# Altium footprint library con-phoenix-508.PCBLIB: 90 footprints (part 3 of 6)
Each footprint in its own frame and in the unit in brackets; x right, y up, seen from the top. Pads: shape width x height; smd on the part's side, far side on the other; paste and mask are expansions set on the pad; w line width, h text height; cw(c..) or ccw(c..) is an arc to the next point about the centre after c.
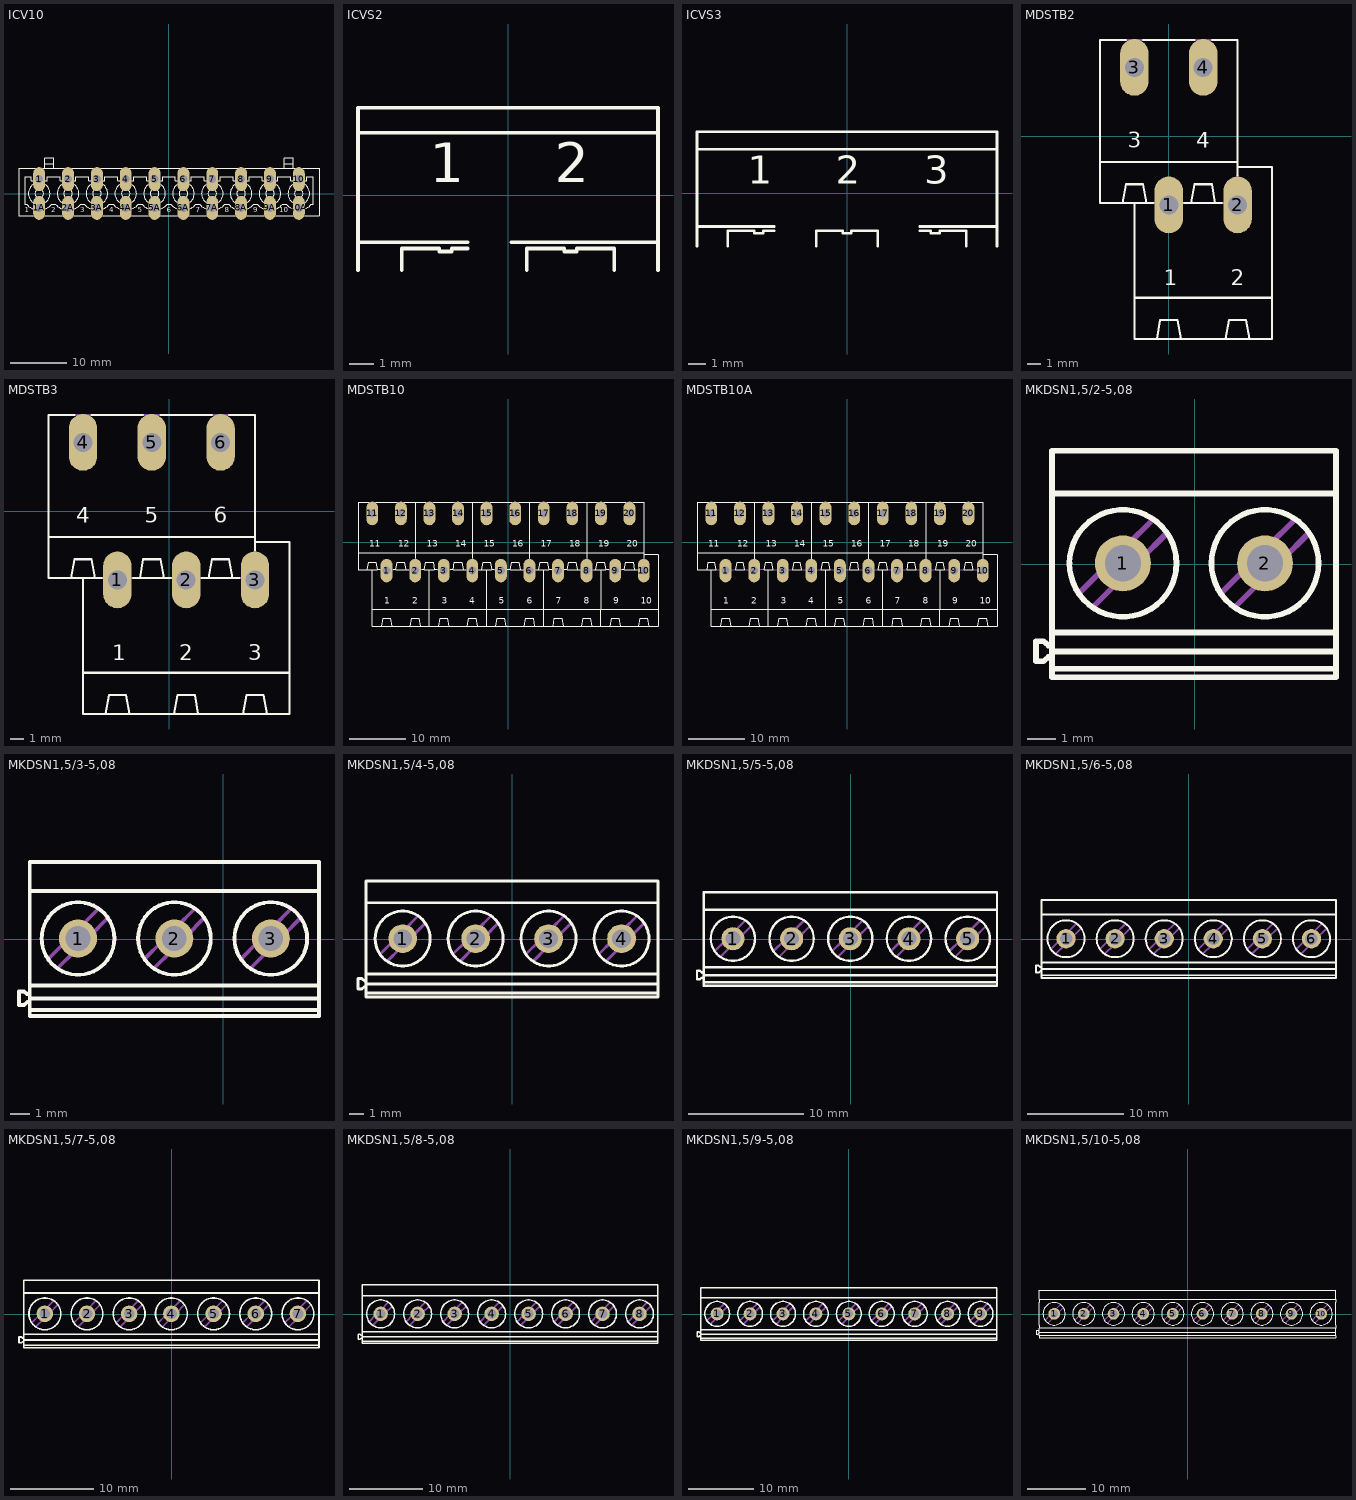
[diagram p2: the footprints below, top view; thin cyan lines are the x and y axes]

## ICV10 [mil]
pads (20):
  oval 82.5x165 hole 55: 1(-900,100) 1A(-900,-100) 2(-700,100) 2A(-700,-100) 3(-500,100) 3A(-500,-100) 4(-300,100) 4A(-300,-100) 5(-100,100) 5A(-100,-100) 6(100,100) 6A(100,-100) 7(300,100) 7A(300,-100) 8(500,100) 8A(500,-100) 9(700,100) 9A(700,-100) 10(900,100) 10A(900,-100)
Top Overlay:
  drawing of 164 lines, arcs and shapes, not listed
  text "1" at -1000,-145 h62
  text "2" at -815,-145 h62
  text "3" at -615,-145 h62
  text "4" at -415,-145 h62
  text "5" at -215,-145 h62
  text "6" at -15,-145 h62
  text "7" at 185,-145 h62
  text "8" at 385,-145 h62
  text "9" at 585,-145 h62
  text "10" at 765,-145 h62
Mechanical 16:
  lines w6: -943,-155 -857,-155 ; -943,-106.66 ccw(c-900,0) -857,-106.66 ; -943,-61.45 ccw(c-900,0) -857,-61.45 ; -943,61.45 cw(c-900,0) -857,61.45 ; -943,90 -857,90 ; -926,175 -874,175 ; -921.71,-20.71 ccw(c-900,0) -878.29,-20.71 ; -921.71,20.71 cw(c-900,0) -878.29,20.71 ; -743,-155 -657,-155 ; -743,-106.66 ccw(c-700,0) -657,-106.66 ; -743,-61.45 ccw(c-700,0) -657,-61.45 ; -743,61.45 cw(c-700,0) -657,61.45 ; -743,90 -657,90 ; -726,175 -674,175 ; -721.71,-20.71 ccw(c-700,0) -678.29,-20.71 ; -721.71,20.71 cw(c-700,0) -678.29,20.71 ; -543,-155 -457,-155 ; -543,-106.66 ccw(c-500,0) -457,-106.66 ; -543,-61.45 ccw(c-500,0) -457,-61.45 ; -543,61.45 cw(c-500,0) -457,61.45 ; -543,90 -457,90 ; -526,175 -474,175 ; -521.71,-20.71 ccw(c-500,0) -478.29,-20.71 ; -521.71,20.71 cw(c-500,0) -478.29,20.71 ; -343,-155 -257,-155 ; -343,-106.66 ccw(c-300,0) -257,-106.66 ; -343,-61.45 ccw(c-300,0) -257,-61.45 ; -343,61.45 cw(c-300,0) -257,61.45 ; -343,90 -257,90 ; -326,175 -274,175 ; -321.71,-20.71 ccw(c-300,0) -278.29,-20.71 ; -321.71,20.71 cw(c-300,0) -278.29,20.71 ; -143,-155 -57,-155 ; -143,-106.66 ccw(c-100,0) -57,-106.66 ; -143,-61.45 ccw(c-100,0) -57,-61.45 ; -143,61.45 cw(c-100,0) -57,61.45 ; -143,90 -57,90 ; -126,175 -74,175 ; -121.71,-20.71 ccw(c-100,0) -78.29,-20.71 ; -121.71,20.71 cw(c-100,0) -78.29,20.71 ; 57,-155 143,-155 ; 57,-106.66 ccw(c100,0) 143,-106.66 ; 57,-61.45 ccw(c100,0) 143,-61.45 ; 57,61.45 cw(c100,0) 143,61.45 ; 57,90 143,90 ; 74,175 126,175 ; 78.29,-20.71 ccw(c100,0) 121.71,-20.71 ; 78.29,20.71 cw(c100,0) 121.71,20.71 ; 257,-155 343,-155 ; 257,-106.66 ccw(c300,0) 343,-106.66 ; 257,-61.45 ccw(c300,0) 343,-61.45 ; 257,61.45 cw(c300,0) 343,61.45 ; 257,90 343,90 ; 274,175 326,175 ; 278.29,-20.71 ccw(c300,0) 321.71,-20.71 ; 278.29,20.71 cw(c300,0) 321.71,20.71 ; 457,-155 543,-155 ; 457,-106.66 ccw(c500,0) 543,-106.66 ; 457,-61.45 ccw(c500,0) 543,-61.45 ; 457,61.45 cw(c500,0) 543,61.45 ; 457,90 543,90 ; 474,175 526,175 ; 478.29,-20.71 ccw(c500,0) 521.71,-20.71 ; 478.29,20.71 cw(c500,0) 521.71,20.71 ; 657,-155 743,-155 ; 657,-106.66 ccw(c700,0) 743,-106.66 ; 657,-61.45 ccw(c700,0) 743,-61.45 ; 657,61.45 cw(c700,0) 743,61.45 ; 657,90 743,90 ; 674,175 726,175 ; 678.29,-20.71 ccw(c700,0) 721.71,-20.71 ; 678.29,20.71 cw(c700,0) 721.71,20.71 ; 857,-155 943,-155 ; 857,-106.66 ccw(c900,0) 943,-106.66 ; 857,-61.45 ccw(c900,0) 943,-61.45 ; 857,61.45 cw(c900,0) 943,61.45 ; 857,90 943,90 ; 874,175 926,175 ; 878.29,-20.71 ccw(c900,0) 921.71,-20.71 ; 878.29,20.71 cw(c900,0) 921.71,20.71

## ICVS2 [mil]
Top Overlay:
  lines w6: -240,-120 -240,-75 ; -170,-120 -170,-85 -110,-85 -110,-90 -90,-90 -90,-85 -65,-85 ; -65,-75 -240,-75 ; 5,-75 240,-75 ; 30,-120 30,-85 90,-85 90,-90 110,-90 110,-85 170,-85 170,-120 ; 240,-120 240,-75 ; -240,-75 -240,100 ; -240,100 -240,140 240,140 240,100 ; -240,100 240,100 ; 240,-75 240,100
  text "1" at -125,0 h108.5
  text "2" at 75,0 h108.5

## ICVS3 [mil]
Top Overlay:
  lines w6: -340,-120 -340,-75 ; -270,-120 -270,-85 -210,-85 -210,-90 -190,-90 -190,-85 -165,-85 ; -165,-75 -340,-75 ; -70,-120 -70,-85 -10,-85 -10,-90 10,-90 10,-85 70,-85 70,-120 ; 165,-85 190,-85 190,-90 210,-90 210,-85 270,-85 270,-120 ; 165,-75 340,-75 ; 340,-120 340,-75 ; -340,-75 -340,100 ; -340,100 -340,140 340,140 340,100 ; -340,100 340,100 ; 340,-75 340,100
  text "1" at -225,0 h108.5
  text "2" at -25,0 h108.5
  text "3" at 175,0 h108.5

## MDSTB2 [mil]
pads (4):
  oval 82.5x165 hole 55: 1(0,-200) 2(200,-200) 3(-100,200) 4(100,200)
Top Overlay:
  lines w6: -125,280 -200,280 -200,-75 ; -75,280 75,280 ; -45,-195 -65,-195 ; 45,-195 65,-195 ; 125,280 200,280 200,-75 ; 155,-195 135,-195 ; 200,-115 200,-90 ; -200,-75 -200,-195 -135,-195 ; -200,-75 200,-75 ; -135,-195 -100,-195 ; -135,-195 -125,-140 -75,-140 -65,-195 ; -100,-470 -100,-590 -35,-590 ; -100,-470 -100,-195 ; -100,-470 300,-470 ; -100,-195 -65,-195 ; -35,-590 35,-590 ; -35,-590 -25,-535 25,-535 35,-590 ; 35,-590 165,-590 ; 65,-195 135,-195 ; 65,-195 75,-140 125,-140 135,-195 ; 165,-590 235,-590 ; 165,-590 175,-535 225,-535 235,-590 ; 200,-90 200,-75 ; 200,-90 300,-90 300,-470 ; 235,-590 300,-590 300,-470
  text "1" at -15,-450 h77.5
  text "2" at 180,-450 h77.5
  text "3" at -120,-50 h77.5
  text "4" at 80,-50 h77.5
Mechanical 16:
  lines w6: -125,280 -75,280 ; -45,-195 45,-195 ; 75,280 125,280 ; 155,-195 200,-195 200,-115

## MDSTB3 [mil]
pads (6):
  oval 82.5x165 hole 55: 1(-150,-200) 2(50,-200) 3(250,-200) 4(-250,200) 5(-50,200) 6(150,200)
Top Overlay:
  lines w6: -275,280 -350,280 -350,-75 ; -225,280 -75,280 ; -195,-195 -215,-195 ; -105,-195 -85,-195 ; -25,280 125,280 ; 5,-195 -15,-195 ; 95,-195 115,-195 ; 175,280 250,280 250,-75 ; 205,-195 185,-195 ; 250,-115 250,-90 ; -350,-75 -350,-195 -285,-195 ; -350,-75 250,-75 ; -285,-195 -250,-195 ; -285,-195 -275,-140 -225,-140 -215,-195 ; -250,-470 -250,-590 -185,-590 ; -250,-470 -250,-195 ; -250,-470 350,-470 ; -250,-195 -215,-195 ; -185,-590 -115,-590 ; -185,-590 -175,-535 -125,-535 -115,-590 ; -115,-590 15,-590 ; -85,-195 -15,-195 ; -85,-195 -75,-140 -25,-140 -15,-195 ; 15,-590 85,-590 ; 15,-590 25,-535 75,-535 85,-590 ; 85,-590 215,-590 ; 115,-195 185,-195 ; 115,-195 125,-140 175,-140 185,-195 ; 215,-590 285,-590 ; 215,-590 225,-535 275,-535 285,-590 ; 250,-90 250,-75 ; 250,-90 350,-90 350,-470 ; 285,-590 350,-590 350,-470
  text "1" at -165,-450 h77.5
  text "2" at 30,-450 h77.5
  text "3" at 230,-450 h77.5
  text "5" at -70,-50 h77.5
  text "4" at -270,-50 h77.5
  text "6" at 130,-50 h77.5
Mechanical 16:
  lines w6: -275,280 -225,280 ; -195,-195 -105,-195 ; -75,280 -25,280 ; 5,-195 95,-195 ; 125,280 175,280 ; 205,-195 250,-195 250,-115

## MDSTB10 [mil]
pads (20):
  oval 82.5x165 hole 55: 1(-850,-200) 2(-650,-200) 3(-450,-200) 4(-250,-200) 5(-50,-200) 6(150,-200) 7(350,-200) 8(550,-200) 9(750,-200) 10(950,-200) 11(-950,200) 12(-750,200) 13(-550,200) 14(-350,200) 15(-150,200) 16(50,200) 17(250,200) 18(450,200) 19(650,200) 20(850,200)
Top Overlay:
  drawing of 171 lines, arcs and shapes, not listed
  text "1" at -865,-450 h77.5
  text "2" at -670,-450 h77.5
  text "3" at -465,-450 h77.5
  text "4" at -270,-450 h77.5
  text "5" at -65,-450 h77.5
  text "6" at 130,-450 h77.5
  text "7" at 335,-450 h77.5
  text "8" at 530,-450 h77.5
  text "9" at 735,-450 h77.5
  text "10" at 930,-450 h77.5
  text "11" at -970,-50 h77.5
  text "12" at -770,-50 h77.5
  text "13" at -570,-50 h77.5
  text "14" at -370,-50 h77.5
  text "15" at -170,-50 h77.5
  text "16" at 30,-50 h77.5
  text "17" at 230,-50 h77.5
  text "18" at 430,-50 h77.5
  text "19" at 630,-50 h77.5
  text "20" at 830,-50 h77.5
Mechanical 16:
  lines w6: -975,280 -925,280 ; -895,-195 -805,-195 ; -775,280 -725,280 ; -695,-195 -650,-195 ; -650,-115 -650,-195 ; -605,-195 -650,-195 ; -575,280 -525,280 ; -495,-195 -405,-195 ; -375,280 -325,280 ; -295,-195 -250,-195 ; -250,-115 -250,-195 ; -205,-195 -250,-195 ; -175,280 -125,280 ; -95,-195 -5,-195 ; 25,280 75,280 ; 105,-195 150,-195 ; 150,-115 150,-195 ; 195,-195 150,-195 ; 225,280 275,280 ; 305,-195 395,-195 ; 425,280 475,280 ; 505,-195 550,-195 ; 550,-115 550,-195 ; 600,-195 550,-195 ; 625,280 675,280 ; 705,-195 795,-195 ; 825,280 875,280 ; 905,-195 950,-195 950,-115

## MDSTB10A [mil]
pads (20):
  oval 82.5x165 hole 55: 1(-850,-200) 2(-650,-200) 3(-450,-200) 4(-250,-200) 5(-50,-200) 6(150,-200) 7(350,-200) 8(550,-200) 9(750,-200) 10(950,-200) 11(-950,200) 12(-750,200) 13(-550,200) 14(-350,200) 15(-150,200) 16(50,200) 17(250,200) 18(450,200) 19(650,200) 20(850,200)
Top Overlay:
  lines w6: -650,-125 -650,-75 ; -250,-125 -250,-75 ; 150,-125 150,-75 ; 550,-125 550,-75 ; 950,-125 950,-90 ; -1050,-75 -1050,280 -650,280 ; -1050,-75 -1050,-195 -980,-195 ; -1050,-75 -650,-75 ; -980,-195 -950,-195 ; -980,-195 -970,-140 -930,-140 -920,-195 -950,-195 ; -950,-470 -950,-590 -885,-590 ; -950,-470 -950,-195 ; -950,-470 -550,-470 ; -885,-590 -815,-590 ; -885,-590 -875,-535 -825,-535 -815,-590 ; -815,-590 -685,-590 ; -685,-590 -615,-590 ; -685,-590 -675,-535 -625,-535 -615,-590 ; -650,-75 -650,280 ; -650,-75 -250,-75 ; -650,280 -250,280 ; -615,-590 -550,-590 ; -550,-590 -485,-590 ; -550,-590 -550,-470 ; -550,-470 -550,-195 ; -550,-470 -150,-470 ; -550,-195 -580,-195 -570,-140 -530,-140 -520,-195 -550,-195 ; -485,-590 -415,-590 ; -485,-590 -475,-535 -425,-535 -415,-590 ; -415,-590 -285,-590 ; -285,-590 -215,-590 ; -285,-590 -275,-535 -225,-535 -215,-590 ; -250,-75 -250,280 ; -250,-75 150,-75 ; -250,280 150,280 ; -215,-590 -150,-590 ; -150,-590 -85,-590 ; -150,-590 -150,-470 ; -150,-470 -150,-195 ; -150,-470 250,-470 ; -150,-195 -180,-195 -170,-140 -130,-140 -120,-195 -150,-195 ; -85,-590 -15,-590 ; -85,-590 -75,-535 -25,-535 -15,-590 ; -15,-590 115,-590 ; 115,-590 185,-590 ; 115,-590 125,-535 175,-535 185,-590 ; 150,-75 150,280 ; 150,-75 550,-75 ; 150,280 550,280 ; 185,-590 250,-590 ; 250,-590 315,-590 ; 250,-590 250,-470 ; 250,-470 250,-195 ; 250,-470 650,-470 ; 250,-195 220,-195 230,-140 270,-140 280,-195 250,-195 ; 315,-590 385,-590 ; 315,-590 325,-535 375,-535 385,-590 ; 385,-590 515,-590 ; 515,-590 585,-590 ; 515,-590 525,-535 575,-535 585,-590 ; 550,-75 550,280 ; 550,-75 950,-75 ; 550,280 950,280 950,-75 ; 585,-590 650,-590 ; 650,-590 715,-590 ; 650,-590 650,-470 ; 650,-470 650,-195 ; 650,-470 1050,-470 ; 650,-195 620,-195 630,-140 670,-140 680,-195 650,-195 ; 715,-590 785,-590 ; 715,-590 725,-535 775,-535 785,-590 ; 785,-590 915,-590 ; 915,-590 985,-590 ; 915,-590 925,-535 975,-535 985,-590 ; 950,-90 950,-75 ; 950,-90 1050,-90 1050,-470 ; 985,-590 1050,-590 1050,-470 ; -780,-195 -720,-195 -730,-140 -770,-140 -780,-195 ; -380,-195 -320,-195 -330,-140 -370,-140 -380,-195 ; 20,-195 80,-195 70,-140 30,-140 20,-195 ; 420,-195 480,-195 470,-140 430,-140 420,-195 ; 820,-195 880,-195 870,-140 830,-140 820,-195
  text "1" at -865,-450 h77.5
  text "2" at -670,-450 h77.5
  text "3" at -465,-450 h77.5
  text "4" at -270,-450 h77.5
  text "5" at -65,-450 h77.5
  text "6" at 130,-450 h77.5
  text "7" at 335,-450 h77.5
  text "8" at 530,-450 h77.5
  text "9" at 735,-450 h77.5
  text "10" at 930,-450 h77.5
  text "11" at -970,-50 h77.5
  text "12" at -770,-50 h77.5
  text "13" at -570,-50 h77.5
  text "14" at -370,-50 h77.5
  text "15" at -170,-50 h77.5
  text "16" at 30,-50 h77.5
  text "17" at 230,-50 h77.5
  text "18" at 430,-50 h77.5
  text "19" at 630,-50 h77.5
  text "20" at 830,-50 h77.5
Mechanical 16:
  lines w6: -920,-195 -780,-195 ; -720,-195 -650,-195 ; -650,-125 -650,-195 ; -580,-195 -650,-195 ; -520,-195 -380,-195 ; -320,-195 -250,-195 ; -250,-125 -250,-195 ; -180,-195 -250,-195 ; -120,-195 20,-195 ; 80,-195 150,-195 ; 150,-125 150,-195 ; 220,-195 150,-195 ; 280,-195 420,-195 ; 480,-195 550,-195 ; 550,-125 550,-195 ; 620,-195 550,-195 ; 680,-195 820,-195 ; 880,-195 950,-195 950,-125

## MKDSN1,5/2-5,08 [mm]
pads (2):
  round 2 hole 1.3: 1(-2.561,0.025) 2(2.519,0.025)
Top Overlay:
  circle w0.203: c-2.561,0.025 r1.915
  circle w0.203: c2.519,0.025 r1.915
  lines w0.203: -5.101,-3.75 -5.101,-3.327 ; -5.101,-3.75 5.059,-3.75 ; -5.101,-3.75 -5.101,-4.05 5.059,-4.05 5.059,-3.75 ; -5.101,-3.327 -5.23,-3.327 -5.408,-3.477 -5.671,-3.477 -5.671,-2.763 -5.408,-2.763 -5.23,-2.913 -5.101,-2.913 ; -5.101,-3.327 -5.101,-3.128 ; -5.101,-3.128 -5.101,-2.913 ; -5.101,-3.128 5.059,-3.128 ; -5.101,-2.913 -5.101,-2.448 ; -5.101,-2.448 -5.101,-1.956 -5.101,2.041 -5.101,2.524 ; -5.101,-2.448 5.059,-2.448 ; -5.101,2.524 5.059,2.524 ; -5.101,2.524 -5.101,4.05 5.059,4.05 5.059,2.524 ; 5.059,-3.75 5.059,-3.128 ; 5.059,-3.128 5.059,-2.448 ; 5.059,-2.448 5.059,-1.956 5.059,2.041 5.059,2.524
Mechanical 16:
  lines w0.203: -4.129,-1.048 -3.2,-0.119 ; -3.634,-1.543 -2.721,-0.63 ; -1.488,1.593 -2.442,0.639 ; -0.993,1.098 -1.931,0.16 ; 0.951,-1.048 1.88,-0.119 ; 1.446,-1.543 2.359,-0.63 ; 3.592,1.593 2.638,0.639 ; 4.087,1.098 3.149,0.16 ; -3.2,-0.119 -2.561,0.52 -2.442,0.639 ; -3.2,-0.119 ccw(c-2.561,0) -2.721,-0.63 ; -2.721,-0.63 -2.561,-0.47 -1.931,0.16 ; -2.442,0.639 cw(c-2.561,0) -1.931,0.16 ; 1.88,-0.119 2.519,0.52 2.638,0.639 ; 1.88,-0.119 ccw(c2.519,0) 2.359,-0.63 ; 2.359,-0.63 2.519,-0.47 3.149,0.16 ; 2.638,0.639 cw(c2.519,0) 3.149,0.16

## MKDSN1,5/3-5,08 [mm]
pads (3):
  round 2 hole 1.3: 1(-7.641,0.025) 2(-2.561,0.025) 3(2.519,0.025)
Top Overlay:
  circle w0.203: c-7.641,0.025 r1.915
  circle w0.203: c-2.561,0.025 r1.915
  circle w0.203: c2.519,0.025 r1.915
  lines w0.203: -10.181,-3.75 -10.181,-3.327 ; -10.181,-3.75 5.059,-3.75 ; -10.181,-3.75 -10.181,-4.05 5.059,-4.05 5.059,-3.75 ; -10.181,-3.327 -10.31,-3.327 -10.488,-3.477 -10.751,-3.477 -10.751,-2.763 -10.488,-2.763 -10.31,-2.913 -10.181,-2.913 ; -10.181,-3.327 -10.181,-3.128 ; -10.181,-3.128 -10.181,-2.913 ; -10.181,-3.128 5.059,-3.128 ; -10.181,-2.913 -10.181,-2.448 ; -10.181,-2.448 -10.181,-1.956 -10.181,2.041 -10.181,2.524 ; -10.181,-2.448 5.059,-2.448 ; -10.181,2.524 5.059,2.524 ; -10.181,2.524 -10.181,4.05 5.059,4.05 5.059,2.524 ; 5.059,-3.75 5.059,-3.128 ; 5.059,-3.128 5.059,-2.448 ; 5.059,-2.448 5.059,-1.956 5.059,2.041 5.059,2.524
Mechanical 16:
  lines w0.203: -9.209,-1.048 -8.28,-0.119 ; -8.714,-1.543 -7.801,-0.63 ; -6.568,1.593 -7.522,0.639 ; -6.073,1.098 -7.011,0.16 ; -4.129,-1.048 -3.2,-0.119 ; -3.634,-1.543 -2.721,-0.63 ; -1.488,1.593 -2.442,0.639 ; -0.993,1.098 -1.931,0.16 ; 0.951,-1.048 1.88,-0.119 ; 1.446,-1.543 2.359,-0.63 ; 3.592,1.593 2.638,0.639 ; 4.087,1.098 3.149,0.16 ; -8.28,-0.119 -7.641,0.52 -7.522,0.639 ; -8.28,-0.119 ccw(c-7.641,0) -7.801,-0.63 ; -7.801,-0.63 -7.641,-0.47 -7.011,0.16 ; -7.522,0.639 cw(c-7.641,0) -7.011,0.16 ; -3.2,-0.119 -2.561,0.52 -2.442,0.639 ; -3.2,-0.119 ccw(c-2.561,0) -2.721,-0.63 ; -2.721,-0.63 -2.561,-0.47 -1.931,0.16 ; -2.442,0.639 cw(c-2.561,0) -1.931,0.16 ; 1.88,-0.119 2.519,0.52 2.638,0.639 ; 1.88,-0.119 ccw(c2.519,0) 2.359,-0.63 ; 2.359,-0.63 2.519,-0.47 3.149,0.16 ; 2.638,0.639 cw(c2.519,0) 3.149,0.16

## MKDSN1,5/4-5,08 [mm]
pads (4):
  round 2 hole 1.3: 1(-7.641,0.025) 2(-2.561,0.025) 3(2.519,0.025) 4(7.599,0.025)
Top Overlay:
  circle w0.203: c-7.641,0.025 r1.915
  circle w0.203: c-2.561,0.025 r1.915
  circle w0.203: c2.519,0.025 r1.915
  circle w0.203: c7.599,0.025 r1.915
  lines w0.203: -10.181,-3.75 -10.181,-3.327 ; -10.181,-3.75 10.139,-3.75 ; -10.181,-3.75 -10.181,-4.05 10.139,-4.05 10.139,-3.75 ; -10.181,-3.327 -10.31,-3.327 -10.488,-3.477 -10.751,-3.477 -10.751,-2.763 -10.488,-2.763 -10.31,-2.913 -10.181,-2.913 ; -10.181,-3.327 -10.181,-3.128 ; -10.181,-3.128 -10.181,-2.913 ; -10.181,-3.128 10.139,-3.128 ; -10.181,-2.913 -10.181,-2.448 ; -10.181,-2.448 -10.181,-1.956 -10.181,2.041 -10.181,2.524 ; -10.181,-2.448 10.139,-2.448 ; -10.181,2.524 10.139,2.524 ; -10.181,2.524 -10.181,4.05 10.139,4.05 10.139,2.524 ; 10.139,-3.75 10.139,-3.128 ; 10.139,-3.128 10.139,-2.448 ; 10.139,-2.448 10.139,-1.956 10.139,2.041 10.139,2.524
Mechanical 16:
  lines w0.203: -9.209,-1.048 -8.28,-0.119 ; -8.714,-1.543 -7.801,-0.63 ; -6.568,1.593 -7.522,0.639 ; -6.073,1.098 -7.011,0.16 ; -4.129,-1.048 -3.2,-0.119 ; -3.634,-1.543 -2.721,-0.63 ; -1.488,1.593 -2.442,0.639 ; -0.993,1.098 -1.931,0.16 ; 0.951,-1.048 1.88,-0.119 ; 1.446,-1.543 2.359,-0.63 ; 3.592,1.593 2.638,0.639 ; 4.087,1.098 3.149,0.16 ; 6.031,-1.048 6.96,-0.119 ; 6.526,-1.543 7.439,-0.63 ; 8.672,1.593 7.718,0.639 ; 9.167,1.098 8.229,0.16 ; -8.28,-0.119 -7.641,0.52 -7.522,0.639 ; -8.28,-0.119 ccw(c-7.641,0) -7.801,-0.63 ; -7.801,-0.63 -7.641,-0.47 -7.011,0.16 ; -7.522,0.639 cw(c-7.641,0) -7.011,0.16 ; -3.2,-0.119 -2.561,0.52 -2.442,0.639 ; -3.2,-0.119 ccw(c-2.561,0) -2.721,-0.63 ; -2.721,-0.63 -2.561,-0.47 -1.931,0.16 ; -2.442,0.639 cw(c-2.561,0) -1.931,0.16 ; 1.88,-0.119 2.519,0.52 2.638,0.639 ; 1.88,-0.119 ccw(c2.519,0) 2.359,-0.63 ; 2.359,-0.63 2.519,-0.47 3.149,0.16 ; 2.638,0.639 cw(c2.519,0) 3.149,0.16 ; 6.96,-0.119 7.599,0.52 7.718,0.639 ; 6.96,-0.119 ccw(c7.599,0) 7.439,-0.63 ; 7.439,-0.63 7.599,-0.47 8.229,0.16 ; 7.718,0.639 cw(c7.599,0) 8.229,0.16

## MKDSN1,5/5-5,08 [mm]
pads (5):
  round 2 hole 1.3: 1(-10.181,0.025) 2(-5.101,0.025) 3(-0.021,0.025) 4(5.059,0.025) 5(10.139,0.025)
Top Overlay:
  circle w0.203: c-10.181,0.025 r1.915
  circle w0.203: c-5.101,0.025 r1.915
  circle w0.203: c-0.021,0.025 r1.915
  circle w0.203: c5.059,0.025 r1.915
  circle w0.203: c10.139,0.025 r1.915
  lines w0.203: -12.721,-3.75 -12.721,-3.327 ; -12.721,-3.75 12.679,-3.75 ; -12.721,-3.75 -12.721,-4.05 12.679,-4.05 12.679,-3.75 ; -12.721,-3.327 -12.85,-3.327 -13.028,-3.477 -13.291,-3.477 -13.291,-2.763 -13.028,-2.763 -12.85,-2.913 -12.721,-2.913 ; -12.721,-3.327 -12.721,-3.128 ; -12.721,-3.128 -12.721,-2.913 ; -12.721,-3.128 12.679,-3.128 ; -12.721,-2.913 -12.721,-2.448 ; -12.721,-2.448 -12.721,-1.956 -12.721,2.041 -12.721,2.524 ; -12.721,-2.448 12.679,-2.448 ; -12.721,2.524 12.679,2.524 ; -12.721,2.524 -12.721,4.05 12.679,4.05 12.679,2.524 ; 12.679,-3.75 12.679,-3.128 ; 12.679,-3.128 12.679,-2.448 ; 12.679,-2.448 12.679,-1.956 12.679,2.041 12.679,2.524
Mechanical 16:
  lines w0.203: -11.749,-1.048 -10.82,-0.119 ; -11.254,-1.543 -10.341,-0.63 ; -9.108,1.593 -10.062,0.639 ; -8.613,1.098 -9.551,0.16 ; -6.669,-1.048 -5.74,-0.119 ; -6.174,-1.543 -5.261,-0.63 ; -4.028,1.593 -4.982,0.639 ; -3.533,1.098 -4.471,0.16 ; -1.589,-1.048 -0.66,-0.119 ; -1.094,-1.543 -0.181,-0.63 ; 1.052,1.593 0.098,0.639 ; 1.547,1.098 0.609,0.16 ; 3.491,-1.048 4.42,-0.119 ; 3.986,-1.543 4.899,-0.63 ; 6.132,1.593 5.178,0.639 ; 6.627,1.098 5.689,0.16 ; 8.571,-1.048 9.5,-0.119 ; 9.066,-1.543 9.979,-0.63 ; 11.212,1.593 10.258,0.639 ; 11.707,1.098 10.769,0.16 ; -10.82,-0.119 -10.181,0.52 -10.062,0.639 ; -10.82,-0.119 ccw(c-10.181,0) -10.341,-0.63 ; -10.341,-0.63 -10.181,-0.47 -9.551,0.16 ; -10.062,0.639 cw(c-10.181,0) -9.551,0.16 ; -5.74,-0.119 -5.101,0.52 -4.982,0.639 ; -5.74,-0.119 ccw(c-5.101,0) -5.261,-0.63 ; -5.261,-0.63 -5.101,-0.47 -4.471,0.16 ; -4.982,0.639 cw(c-5.101,0) -4.471,0.16 ; -0.66,-0.119 -0.021,0.52 0.098,0.639 ; -0.66,-0.119 ccw(c-0.021,0) -0.181,-0.63 ; -0.181,-0.63 -0.021,-0.47 0.609,0.16 ; 0.098,0.639 cw(c-0.021,0) 0.609,0.16 ; 4.42,-0.119 5.059,0.52 5.178,0.639 ; 4.42,-0.119 ccw(c5.059,0) 4.899,-0.63 ; 4.899,-0.63 5.059,-0.47 5.689,0.16 ; 5.178,0.639 cw(c5.059,0) 5.689,0.16 ; 9.5,-0.119 10.139,0.52 10.258,0.639 ; 9.5,-0.119 ccw(c10.139,0) 9.979,-0.63 ; 9.979,-0.63 10.139,-0.47 10.769,0.16 ; 10.258,0.639 cw(c10.139,0) 10.769,0.16

## MKDSN1,5/6-5,08 [mm]
pads (6):
  round 2 hole 1.3: 1(-12.7,0.025) 2(-7.62,0.025) 3(-2.54,0.025) 4(2.54,0.025) 5(7.62,0.025) 6(12.7,0.025)
Top Overlay:
  circle w0.203: c-12.7,0.025 r1.915
  circle w0.203: c-7.62,0.025 r1.915
  circle w0.203: c-2.54,0.025 r1.915
  circle w0.203: c2.54,0.025 r1.915
  circle w0.203: c7.62,0.025 r1.915
  circle w0.203: c12.7,0.025 r1.915
  lines w0.203: -15.24,-3.75 -15.24,-3.327 ; -15.24,-3.75 15.24,-3.75 ; -15.24,-3.75 -15.24,-4.05 15.24,-4.05 15.24,-3.75 ; -15.24,-3.327 -15.369,-3.327 -15.547,-3.477 -15.81,-3.477 -15.81,-2.763 -15.547,-2.763 -15.369,-2.913 -15.24,-2.913 ; -15.24,-3.327 -15.24,-3.128 ; -15.24,-3.128 -15.24,-2.913 ; -15.24,-3.128 15.24,-3.128 ; -15.24,-2.913 -15.24,-2.448 ; -15.24,-2.448 -15.24,-1.956 -15.24,2.041 -15.24,2.524 ; -15.24,-2.448 15.24,-2.448 ; -15.24,2.524 15.24,2.524 ; -15.24,2.524 -15.24,4.05 15.24,4.05 15.24,2.524 ; 15.24,-3.75 15.24,-3.128 ; 15.24,-3.128 15.24,-2.448 ; 15.24,-2.448 15.24,-1.956 15.24,2.041 15.24,2.524
Mechanical 16:
  lines w0.203: -14.268,-1.048 -13.339,-0.119 ; -13.773,-1.543 -12.86,-0.63 ; -11.627,1.593 -12.581,0.639 ; -11.132,1.098 -12.07,0.16 ; -9.188,-1.048 -8.259,-0.119 ; -8.693,-1.543 -7.78,-0.63 ; -6.547,1.593 -7.501,0.639 ; -6.052,1.098 -6.99,0.16 ; -4.108,-1.048 -3.179,-0.119 ; -3.613,-1.543 -2.7,-0.63 ; -1.467,1.593 -2.421,0.639 ; -0.972,1.098 -1.91,0.16 ; 0.972,-1.048 1.901,-0.119 ; 1.467,-1.543 2.38,-0.63 ; 3.613,1.593 2.659,0.639 ; 4.108,1.098 3.17,0.16 ; 6.052,-1.048 6.981,-0.119 ; 6.547,-1.543 7.46,-0.63 ; 8.693,1.593 7.739,0.639 ; 9.188,1.098 8.25,0.16 ; 11.132,-1.048 12.061,-0.119 ; 11.627,-1.543 12.54,-0.63 ; 13.773,1.593 12.819,0.639 ; 14.268,1.098 13.33,0.16 ; -13.339,-0.119 -12.7,0.52 -12.581,0.639 ; -13.339,-0.119 ccw(c-12.7,0) -12.86,-0.63 ; -12.86,-0.63 -12.7,-0.47 -12.07,0.16 ; -12.581,0.639 cw(c-12.7,0) -12.07,0.16 ; -8.259,-0.119 -7.62,0.52 -7.501,0.639 ; -8.259,-0.119 ccw(c-7.62,0) -7.78,-0.63 ; -7.78,-0.63 -7.62,-0.47 -6.99,0.16 ; -7.501,0.639 cw(c-7.62,0) -6.99,0.16 ; -3.179,-0.119 -2.54,0.52 -2.421,0.639 ; -3.179,-0.119 ccw(c-2.54,0) -2.7,-0.63 ; -2.7,-0.63 -2.54,-0.47 -1.91,0.16 ; -2.421,0.639 cw(c-2.54,0) -1.91,0.16 ; 1.901,-0.119 2.54,0.52 2.659,0.639 ; 1.901,-0.119 ccw(c2.54,0) 2.38,-0.63 ; 2.38,-0.63 2.54,-0.47 3.17,0.16 ; 2.659,0.639 cw(c2.54,0) 3.17,0.16 ; 6.981,-0.119 7.62,0.52 7.739,0.639 ; 6.981,-0.119 ccw(c7.62,0) 7.46,-0.63 ; 7.46,-0.63 7.62,-0.47 8.25,0.16 ; 7.739,0.639 cw(c7.62,0) 8.25,0.16 ; 12.061,-0.119 12.7,0.52 12.819,0.639 ; 12.061,-0.119 ccw(c12.7,0) 12.54,-0.63 ; 12.54,-0.63 12.7,-0.47 13.33,0.16 ; 12.819,0.639 cw(c12.7,0) 13.33,0.16

## MKDSN1,5/7-5,08 [mm]
pads (7):
  round 2 hole 1.3: 1(-15.261,0.025) 2(-10.181,0.025) 3(-5.101,0.025) 4(-0.021,0.025) 5(5.059,0.025) 6(10.139,0.025) 7(15.219,0.025)
Top Overlay:
  circle w0.203: c-15.261,0.025 r1.915
  circle w0.203: c-10.181,0.025 r1.915
  circle w0.203: c-5.101,0.025 r1.915
  circle w0.203: c-0.021,0.025 r1.915
  circle w0.203: c5.059,0.025 r1.915
  circle w0.203: c10.139,0.025 r1.915
  circle w0.203: c15.219,0.025 r1.915
  lines w0.203: -17.801,-3.75 -17.801,-3.327 ; -17.801,-3.75 17.759,-3.75 ; -17.801,-3.75 -17.801,-4.05 17.759,-4.05 17.759,-3.75 ; -17.801,-3.327 -17.93,-3.327 -18.108,-3.477 -18.371,-3.477 -18.371,-2.763 -18.108,-2.763 -17.93,-2.913 -17.801,-2.913 ; -17.801,-3.327 -17.801,-3.128 ; -17.801,-3.128 -17.801,-2.913 ; -17.801,-3.128 17.759,-3.128 ; -17.801,-2.913 -17.801,-2.448 ; -17.801,-2.448 -17.801,-1.956 -17.801,2.041 -17.801,2.524 ; -17.801,-2.448 17.759,-2.448 ; -17.801,2.524 17.759,2.524 ; -17.801,2.524 -17.801,4.05 17.759,4.05 17.759,2.524 ; 17.759,-3.75 17.759,-3.128 ; 17.759,-3.128 17.759,-2.448 ; 17.759,-2.448 17.759,-1.956 17.759,2.041 17.759,2.524
Mechanical 16:
  lines w0.203: -16.829,-1.048 -15.9,-0.119 ; -16.334,-1.543 -15.421,-0.63 ; -14.188,1.593 -15.142,0.639 ; -13.693,1.098 -14.631,0.16 ; -11.749,-1.048 -10.82,-0.119 ; -11.254,-1.543 -10.341,-0.63 ; -9.108,1.593 -10.062,0.639 ; -8.613,1.098 -9.551,0.16 ; -6.669,-1.048 -5.74,-0.119 ; -6.174,-1.543 -5.261,-0.63 ; -4.028,1.593 -4.982,0.639 ; -3.533,1.098 -4.471,0.16 ; -1.589,-1.048 -0.66,-0.119 ; -1.094,-1.543 -0.181,-0.63 ; 1.052,1.593 0.098,0.639 ; 1.547,1.098 0.609,0.16 ; 3.491,-1.048 4.42,-0.119 ; 3.986,-1.543 4.899,-0.63 ; 6.132,1.593 5.178,0.639 ; 6.627,1.098 5.689,0.16 ; 8.571,-1.048 9.5,-0.119 ; 9.066,-1.543 9.979,-0.63 ; 11.212,1.593 10.258,0.639 ; 11.707,1.098 10.769,0.16 ; 13.651,-1.048 14.58,-0.119 ; 14.146,-1.543 15.059,-0.63 ; 16.292,1.593 15.338,0.639 ; 16.787,1.098 15.849,0.16 ; -15.9,-0.119 -15.261,0.52 -15.142,0.639 ; -15.9,-0.119 ccw(c-15.261,0) -15.421,-0.63 ; -15.421,-0.63 -15.261,-0.47 -14.631,0.16 ; -15.142,0.639 cw(c-15.261,0) -14.631,0.16 ; -10.82,-0.119 -10.181,0.52 -10.062,0.639 ; -10.82,-0.119 ccw(c-10.181,0) -10.341,-0.63 ; -10.341,-0.63 -10.181,-0.47 -9.551,0.16 ; -10.062,0.639 cw(c-10.181,0) -9.551,0.16 ; -5.74,-0.119 -5.101,0.52 -4.982,0.639 ; -5.74,-0.119 ccw(c-5.101,0) -5.261,-0.63 ; -5.261,-0.63 -5.101,-0.47 -4.471,0.16 ; -4.982,0.639 cw(c-5.101,0) -4.471,0.16 ; -0.66,-0.119 -0.021,0.52 0.098,0.639 ; -0.66,-0.119 ccw(c-0.021,0) -0.181,-0.63 ; -0.181,-0.63 -0.021,-0.47 0.609,0.16 ; 0.098,0.639 cw(c-0.021,0) 0.609,0.16 ; 4.42,-0.119 5.059,0.52 5.178,0.639 ; 4.42,-0.119 ccw(c5.059,0) 4.899,-0.63 ; 4.899,-0.63 5.059,-0.47 5.689,0.16 ; 5.178,0.639 cw(c5.059,0) 5.689,0.16 ; 9.5,-0.119 10.139,0.52 10.258,0.639 ; 9.5,-0.119 ccw(c10.139,0) 9.979,-0.63 ; 9.979,-0.63 10.139,-0.47 10.769,0.16 ; 10.258,0.639 cw(c10.139,0) 10.769,0.16 ; 14.58,-0.119 15.219,0.52 15.338,0.639 ; 14.58,-0.119 ccw(c15.219,0) 15.059,-0.63 ; 15.059,-0.63 15.219,-0.47 15.849,0.16 ; 15.338,0.639 cw(c15.219,0) 15.849,0.16

## MKDSN1,5/8-5,08 [mm]
pads (8):
  round 2 hole 1.3: 1(-17.801,0.025) 2(-12.721,0.025) 3(-7.641,0.025) 4(-2.561,0.025) 5(2.519,0.025) 6(7.599,0.025) 7(12.679,0.025) 8(17.759,0.025)
Top Overlay:
  circle w0.203: c-17.801,0.025 r1.915
  circle w0.203: c-12.721,0.025 r1.915
  circle w0.203: c-7.641,0.025 r1.915
  circle w0.203: c-2.561,0.025 r1.915
  circle w0.203: c2.519,0.025 r1.915
  circle w0.203: c7.599,0.025 r1.915
  circle w0.203: c12.679,0.025 r1.915
  circle w0.203: c17.759,0.025 r1.915
  lines w0.203: -20.341,-3.75 -20.341,-3.327 ; -20.341,-3.75 20.299,-3.75 ; -20.341,-3.75 -20.341,-4.05 20.299,-4.05 20.299,-3.75 ; -20.341,-3.327 -20.47,-3.327 -20.648,-3.477 -20.911,-3.477 -20.911,-2.763 -20.648,-2.763 -20.47,-2.913 -20.341,-2.913 ; -20.341,-3.327 -20.341,-3.128 ; -20.341,-3.128 -20.341,-2.913 ; -20.341,-3.128 20.299,-3.128 ; -20.341,-2.913 -20.341,-2.448 ; -20.341,-2.448 -20.341,-1.956 -20.341,2.041 -20.341,2.524 ; -20.341,-2.448 20.299,-2.448 ; -20.341,2.524 20.299,2.524 ; -20.341,2.524 -20.341,4.05 20.299,4.05 20.299,2.524 ; 20.299,-3.75 20.299,-3.128 ; 20.299,-3.128 20.299,-2.448 ; 20.299,-2.448 20.299,-1.956 20.299,2.041 20.299,2.524
Mechanical 16:
  lines w0.203: -19.369,-1.048 -18.44,-0.119 ; -18.874,-1.543 -17.961,-0.63 ; -16.728,1.593 -17.682,0.639 ; -16.233,1.098 -17.171,0.16 ; -14.289,-1.048 -13.36,-0.119 ; -13.794,-1.543 -12.881,-0.63 ; -11.648,1.593 -12.602,0.639 ; -11.153,1.098 -12.091,0.16 ; -9.209,-1.048 -8.28,-0.119 ; -8.714,-1.543 -7.801,-0.63 ; -6.568,1.593 -7.522,0.639 ; -6.073,1.098 -7.011,0.16 ; -4.129,-1.048 -3.2,-0.119 ; -3.634,-1.543 -2.721,-0.63 ; -1.488,1.593 -2.442,0.639 ; -0.993,1.098 -1.931,0.16 ; 0.951,-1.048 1.88,-0.119 ; 1.446,-1.543 2.359,-0.63 ; 3.592,1.593 2.638,0.639 ; 4.087,1.098 3.149,0.16 ; 6.031,-1.048 6.96,-0.119 ; 6.526,-1.543 7.439,-0.63 ; 8.672,1.593 7.718,0.639 ; 9.167,1.098 8.229,0.16 ; 11.111,-1.048 12.04,-0.119 ; 11.606,-1.543 12.519,-0.63 ; 13.752,1.593 12.798,0.639 ; 14.247,1.098 13.309,0.16 ; 16.191,-1.048 17.12,-0.119 ; 16.686,-1.543 17.599,-0.63 ; 18.832,1.593 17.878,0.639 ; 19.327,1.098 18.389,0.16 ; -18.44,-0.119 -17.801,0.52 -17.682,0.639 ; -18.44,-0.119 ccw(c-17.801,0) -17.961,-0.63 ; -17.961,-0.63 -17.801,-0.47 -17.171,0.16 ; -17.682,0.639 cw(c-17.801,0) -17.171,0.16 ; -13.36,-0.119 -12.721,0.52 -12.602,0.639 ; -13.36,-0.119 ccw(c-12.721,0) -12.881,-0.63 ; -12.881,-0.63 -12.721,-0.47 -12.091,0.16 ; -12.602,0.639 cw(c-12.721,0) -12.091,0.16 ; -8.28,-0.119 -7.641,0.52 -7.522,0.639 ; -8.28,-0.119 ccw(c-7.641,0) -7.801,-0.63 ; -7.801,-0.63 -7.641,-0.47 -7.011,0.16 ; -7.522,0.639 cw(c-7.641,0) -7.011,0.16 ; -3.2,-0.119 -2.561,0.52 -2.442,0.639 ; -3.2,-0.119 ccw(c-2.561,0) -2.721,-0.63 ; -2.721,-0.63 -2.561,-0.47 -1.931,0.16 ; -2.442,0.639 cw(c-2.561,0) -1.931,0.16 ; 1.88,-0.119 2.519,0.52 2.638,0.639 ; 1.88,-0.119 ccw(c2.519,0) 2.359,-0.63 ; 2.359,-0.63 2.519,-0.47 3.149,0.16 ; 2.638,0.639 cw(c2.519,0) 3.149,0.16 ; 6.96,-0.119 7.599,0.52 7.718,0.639 ; 6.96,-0.119 ccw(c7.599,0) 7.439,-0.63 ; 7.439,-0.63 7.599,-0.47 8.229,0.16 ; 7.718,0.639 cw(c7.599,0) 8.229,0.16 ; 12.04,-0.119 12.679,0.52 12.798,0.639 ; 12.04,-0.119 ccw(c12.679,0) 12.519,-0.63 ; 12.519,-0.63 12.679,-0.47 13.309,0.16 ; 12.798,0.639 cw(c12.679,0) 13.309,0.16 ; 17.12,-0.119 17.759,0.52 17.878,0.639 ; 17.12,-0.119 ccw(c17.759,0) 17.599,-0.63 ; 17.599,-0.63 17.759,-0.47 18.389,0.16 ; 17.878,0.639 cw(c17.759,0) 18.389,0.16

## MKDSN1,5/9-5,08 [mm]
pads (9):
  round 2 hole 1.3: 1(-20.341,0.025) 2(-15.261,0.025) 3(-10.181,0.025) 4(-5.101,0.025) 5(-0.021,0.025) 6(5.059,0.025) 7(10.139,0.025) 8(15.219,0.025) 9(20.299,0.025)
Top Overlay:
  circle w0.203: c-20.341,0.025 r1.915
  circle w0.203: c-15.261,0.025 r1.915
  circle w0.203: c-10.181,0.025 r1.915
  circle w0.203: c-5.101,0.025 r1.915
  circle w0.203: c-0.021,0.025 r1.915
  circle w0.203: c5.059,0.025 r1.915
  circle w0.203: c10.139,0.025 r1.915
  circle w0.203: c15.219,0.025 r1.915
  circle w0.203: c20.299,0.025 r1.915
  lines w0.203: -22.881,-3.75 -22.881,-3.327 ; -22.881,-3.75 22.839,-3.75 ; -22.881,-3.75 -22.881,-4.05 22.839,-4.05 22.839,-3.75 ; -22.881,-3.327 -23.01,-3.327 -23.188,-3.477 -23.451,-3.477 -23.451,-2.763 -23.188,-2.763 -23.01,-2.913 -22.881,-2.913 ; -22.881,-3.327 -22.881,-3.128 ; -22.881,-3.128 -22.881,-2.913 ; -22.881,-3.128 22.839,-3.128 ; -22.881,-2.913 -22.881,-2.448 ; -22.881,-2.448 -22.881,-1.956 -22.881,2.041 -22.881,2.524 ; -22.881,-2.448 22.839,-2.448 ; -22.881,2.524 22.839,2.524 ; -22.881,2.524 -22.881,4.05 22.839,4.05 22.839,2.524 ; 22.839,-3.75 22.839,-3.128 ; 22.839,-3.128 22.839,-2.448 ; 22.839,-2.448 22.839,-1.956 22.839,2.041 22.839,2.524
Mechanical 16:
  lines w0.203: -21.909,-1.048 -20.98,-0.119 ; -21.414,-1.543 -20.501,-0.63 ; -19.268,1.593 -20.222,0.639 ; -18.773,1.098 -19.711,0.16 ; -16.829,-1.048 -15.9,-0.119 ; -16.334,-1.543 -15.421,-0.63 ; -14.188,1.593 -15.142,0.639 ; -13.693,1.098 -14.631,0.16 ; -11.749,-1.048 -10.82,-0.119 ; -11.254,-1.543 -10.341,-0.63 ; -9.108,1.593 -10.062,0.639 ; -8.613,1.098 -9.551,0.16 ; -6.669,-1.048 -5.74,-0.119 ; -6.174,-1.543 -5.261,-0.63 ; -4.028,1.593 -4.982,0.639 ; -3.533,1.098 -4.471,0.16 ; -1.589,-1.048 -0.66,-0.119 ; -1.094,-1.543 -0.181,-0.63 ; 1.052,1.593 0.098,0.639 ; 1.547,1.098 0.609,0.16 ; 3.491,-1.048 4.42,-0.119 ; 3.986,-1.543 4.899,-0.63 ; 6.132,1.593 5.178,0.639 ; 6.627,1.098 5.689,0.16 ; 8.571,-1.048 9.5,-0.119 ; 9.066,-1.543 9.979,-0.63 ; 11.212,1.593 10.258,0.639 ; 11.707,1.098 10.769,0.16 ; 13.651,-1.048 14.58,-0.119 ; 14.146,-1.543 15.059,-0.63 ; 16.292,1.593 15.338,0.639 ; 16.787,1.098 15.849,0.16 ; 18.731,-1.048 19.66,-0.119 ; 19.226,-1.543 20.139,-0.63 ; 21.372,1.593 20.418,0.639 ; 21.867,1.098 20.929,0.16 ; -20.98,-0.119 -20.341,0.52 -20.222,0.639 ; -20.98,-0.119 ccw(c-20.341,0) -20.501,-0.63 ; -20.501,-0.63 -20.341,-0.47 -19.711,0.16 ; -20.222,0.639 cw(c-20.341,0) -19.711,0.16 ; -15.9,-0.119 -15.261,0.52 -15.142,0.639 ; -15.9,-0.119 ccw(c-15.261,0) -15.421,-0.63 ; -15.421,-0.63 -15.261,-0.47 -14.631,0.16 ; -15.142,0.639 cw(c-15.261,0) -14.631,0.16 ; -10.82,-0.119 -10.181,0.52 -10.062,0.639 ; -10.82,-0.119 ccw(c-10.181,0) -10.341,-0.63 ; -10.341,-0.63 -10.181,-0.47 -9.551,0.16 ; -10.062,0.639 cw(c-10.181,0) -9.551,0.16 ; -5.74,-0.119 -5.101,0.52 -4.982,0.639 ; -5.74,-0.119 ccw(c-5.101,0) -5.261,-0.63 ; -5.261,-0.63 -5.101,-0.47 -4.471,0.16 ; -4.982,0.639 cw(c-5.101,0) -4.471,0.16 ; -0.66,-0.119 -0.021,0.52 0.098,0.639 ; -0.66,-0.119 ccw(c-0.021,0) -0.181,-0.63 ; -0.181,-0.63 -0.021,-0.47 0.609,0.16 ; 0.098,0.639 cw(c-0.021,0) 0.609,0.16 ; 4.42,-0.119 5.059,0.52 5.178,0.639 ; 4.42,-0.119 ccw(c5.059,0) 4.899,-0.63 ; 4.899,-0.63 5.059,-0.47 5.689,0.16 ; 5.178,0.639 cw(c5.059,0) 5.689,0.16 ; 9.5,-0.119 10.139,0.52 10.258,0.639 ; 9.5,-0.119 ccw(c10.139,0) 9.979,-0.63 ; 9.979,-0.63 10.139,-0.47 10.769,0.16 ; 10.258,0.639 cw(c10.139,0) 10.769,0.16 ; 14.58,-0.119 15.219,0.52 15.338,0.639 ; 14.58,-0.119 ccw(c15.219,0) 15.059,-0.63 ; 15.059,-0.63 15.219,-0.47 15.849,0.16 ; 15.338,0.639 cw(c15.219,0) 15.849,0.16 ; 19.66,-0.119 20.299,0.52 20.418,0.639 ; 19.66,-0.119 ccw(c20.299,0) 20.139,-0.63 ; 20.139,-0.63 20.299,-0.47 20.929,0.16 ; 20.418,0.639 cw(c20.299,0) 20.929,0.16

## MKDSN1,5/10-5,08 [mm]
pads (10):
  round 2 hole 1.3: 1(-22.881,0.025) 2(-17.801,0.025) 3(-12.721,0.025) 4(-7.641,0.025) 5(-2.561,0.025) 6(2.519,0.025) 7(7.599,0.025) 8(12.679,0.025) 9(17.759,0.025) 10(22.839,0.025)
Top Overlay:
  circle w0.203: c-22.881,0.025 r1.915
  circle w0.203: c-17.801,0.025 r1.915
  circle w0.203: c-12.721,0.025 r1.915
  circle w0.203: c-7.641,0.025 r1.915
  circle w0.203: c-2.561,0.025 r1.915
  circle w0.203: c2.519,0.025 r1.915
  circle w0.203: c7.599,0.025 r1.915
  circle w0.203: c12.679,0.025 r1.915
  circle w0.203: c17.759,0.025 r1.915
  circle w0.203: c22.839,0.025 r1.915
  lines w0.203: -25.421,-3.75 -25.421,-3.327 ; -25.421,-3.75 25.379,-3.75 ; -25.421,-3.75 -25.421,-4.05 25.379,-4.05 25.379,-3.75 ; -25.421,-3.327 -25.55,-3.327 -25.728,-3.477 -25.991,-3.477 -25.991,-2.763 -25.728,-2.763 -25.55,-2.913 -25.421,-2.913 ; -25.421,-3.327 -25.421,-3.128 ; -25.421,-3.128 -25.421,-2.913 ; -25.421,-3.128 25.379,-3.128 ; -25.421,-2.913 -25.421,-2.448 ; -25.421,-2.448 -25.421,-1.956 -25.421,2.041 -25.421,2.524 ; -25.421,-2.448 25.379,-2.448 ; -25.421,2.524 25.379,2.524 ; -25.421,2.524 -25.421,4.05 25.379,4.05 25.379,2.524 ; 25.379,-3.75 25.379,-3.128 ; 25.379,-3.128 25.379,-2.448 ; 25.379,-2.448 25.379,-1.956 25.379,2.041 25.379,2.524
Mechanical 16:
  lines w0.203: -24.449,-1.048 -23.52,-0.119 ; -23.954,-1.543 -23.041,-0.63 ; -21.808,1.593 -22.762,0.639 ; -21.313,1.098 -22.251,0.16 ; -19.369,-1.048 -18.44,-0.119 ; -18.874,-1.543 -17.961,-0.63 ; -16.728,1.593 -17.682,0.639 ; -16.233,1.098 -17.171,0.16 ; -14.289,-1.048 -13.36,-0.119 ; -13.794,-1.543 -12.881,-0.63 ; -11.648,1.593 -12.602,0.639 ; -11.153,1.098 -12.091,0.16 ; -9.209,-1.048 -8.28,-0.119 ; -8.714,-1.543 -7.801,-0.63 ; -6.568,1.593 -7.522,0.639 ; -6.073,1.098 -7.011,0.16 ; -4.129,-1.048 -3.2,-0.119 ; -3.634,-1.543 -2.721,-0.63 ; -1.488,1.593 -2.442,0.639 ; -0.993,1.098 -1.931,0.16 ; 0.951,-1.048 1.88,-0.119 ; 1.446,-1.543 2.359,-0.63 ; 3.592,1.593 2.638,0.639 ; 4.087,1.098 3.149,0.16 ; 6.031,-1.048 6.96,-0.119 ; 6.526,-1.543 7.439,-0.63 ; 8.672,1.593 7.718,0.639 ; 9.167,1.098 8.229,0.16 ; 11.111,-1.048 12.04,-0.119 ; 11.606,-1.543 12.519,-0.63 ; 13.752,1.593 12.798,0.639 ; 14.247,1.098 13.309,0.16 ; 16.191,-1.048 17.12,-0.119 ; 16.686,-1.543 17.599,-0.63 ; 18.832,1.593 17.878,0.639 ; 19.327,1.098 18.389,0.16 ; 21.271,-1.048 22.2,-0.119 ; 21.766,-1.543 22.679,-0.63 ; 23.912,1.593 22.958,0.639 ; 24.407,1.098 23.469,0.16 ; -23.52,-0.119 -22.881,0.52 -22.762,0.639 ; -23.52,-0.119 ccw(c-22.881,0) -23.041,-0.63 ; -23.041,-0.63 -22.881,-0.47 -22.251,0.16 ; -22.762,0.639 cw(c-22.881,0) -22.251,0.16 ; -18.44,-0.119 -17.801,0.52 -17.682,0.639 ; -18.44,-0.119 ccw(c-17.801,0) -17.961,-0.63 ; -17.961,-0.63 -17.801,-0.47 -17.171,0.16 ; -17.682,0.639 cw(c-17.801,0) -17.171,0.16 ; -13.36,-0.119 -12.721,0.52 -12.602,0.639 ; -13.36,-0.119 ccw(c-12.721,0) -12.881,-0.63 ; -12.881,-0.63 -12.721,-0.47 -12.091,0.16 ; -12.602,0.639 cw(c-12.721,0) -12.091,0.16 ; -8.28,-0.119 -7.641,0.52 -7.522,0.639 ; -8.28,-0.119 ccw(c-7.641,0) -7.801,-0.63 ; -7.801,-0.63 -7.641,-0.47 -7.011,0.16 ; -7.522,0.639 cw(c-7.641,0) -7.011,0.16 ; -3.2,-0.119 -2.561,0.52 -2.442,0.639 ; -3.2,-0.119 ccw(c-2.561,0) -2.721,-0.63 ; -2.721,-0.63 -2.561,-0.47 -1.931,0.16 ; -2.442,0.639 cw(c-2.561,0) -1.931,0.16 ; 1.88,-0.119 2.519,0.52 2.638,0.639 ; 1.88,-0.119 ccw(c2.519,0) 2.359,-0.63 ; 2.359,-0.63 2.519,-0.47 3.149,0.16 ; 2.638,0.639 cw(c2.519,0) 3.149,0.16 ; 6.96,-0.119 7.599,0.52 7.718,0.639 ; 6.96,-0.119 ccw(c7.599,0) 7.439,-0.63 ; 7.439,-0.63 7.599,-0.47 8.229,0.16 ; 7.718,0.639 cw(c7.599,0) 8.229,0.16 ; 12.04,-0.119 12.679,0.52 12.798,0.639 ; 12.04,-0.119 ccw(c12.679,0) 12.519,-0.63 ; 12.519,-0.63 12.679,-0.47 13.309,0.16 ; 12.798,0.639 cw(c12.679,0) 13.309,0.16 ; 17.12,-0.119 17.759,0.52 17.878,0.639 ; 17.12,-0.119 ccw(c17.759,0) 17.599,-0.63 ; 17.599,-0.63 17.759,-0.47 18.389,0.16 ; 17.878,0.639 cw(c17.759,0) 18.389,0.16 ; 22.2,-0.119 22.839,0.52 22.958,0.639 ; 22.2,-0.119 ccw(c22.839,0) 22.679,-0.63 ; 22.679,-0.63 22.839,-0.47 23.469,0.16 ; 22.958,0.639 cw(c22.839,0) 23.469,0.16